# EAGLE library part DS2483-100 (library custom)
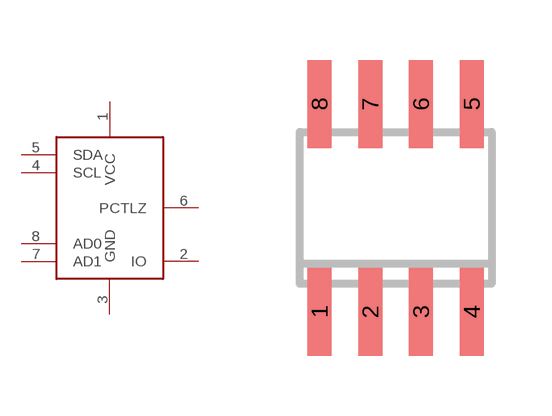
[diagram p7: symbol with the pads of SO-08; footprint SO-08]

Designator prefix -

## DS2483-100  [SO-08]
1  VCC
2  IO
3  GND
4  SCL
5  SDA
6  PCTLZ
7  AD1
8  AD0

## Footprint SO-08 (pad centres in mm)
Small Outline Narrow Plastic Gull Wing 150-mil body, package type SN
smd 0.6 x 2.2: 1 -1.905,-2.6; 2 -0.635,-2.6; 3 0.635,-2.6; 4 1.905,-2.6; 5 1.905,2.6; 6 0.635,2.6; 7 -0.635,2.6; 8 -1.905,2.6